# Altium schematic symbol library ST25R3918-AQET.SchLib: 1 symbol
Pins are listed as number, name and electrical type; pins without a type are passive.

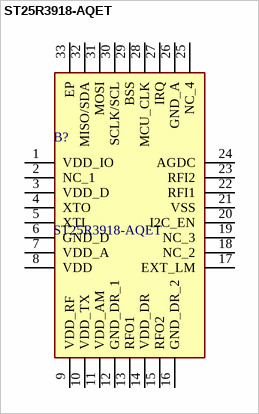
[diagram p0: symbol ST25R3918-AQET]

## ST25R3918-AQET
designator B?
Multi-purpose NFC transceiver; Manufacturer_Name: STMicroelectronics; Geometry.Height: 1mm; Mouser Part Number: 511-ST25R3918-AQET; Mouser Price/Stock: https://www.mouser.co.uk/ProductDetail/STMicroelectronics/ST25R3918-AQET?qs=9vOqFld9vZWSlZkFPTE6DA%3D%3D; Manufacturer_Part_Number: ST25R3918-AQET; Datasheet Link: https://www.st.com/resource/en/datasheet/st25r3918.pdf
footprint QFN50P500X500X100-33N-D
pins: 1 VDD_IO, 2 NC_1, 3 VDD_D, 4 XTO, 5 XTI, 6 GND_D, 7 VDD_A, 8 VDD, 9 VDD_RF, 10 VDD_TX, 11 VDD_AM, 12 GND_DR_1, 13 RFO1, 14 VDD_DR, 15 RFO2, 16 GND_DR_2, 17 EXT_LM, 18 NC_2, 19 NC_3, 20 I2C_EN, 21 VSS, 22 RFI1, 23 RFI2, 24 AGDC, 25 NC_4, 26 GND_A, 27 IRQ, 28 MCU_CLK, 29 BSS, 30 SCLK/SCL, 31 MOSI, 32 MISO/SDA, 33 EP